# Altium footprint library Infineon Power MOSFET.PcbLib: 137 footprints (part 4 of 9)
Each footprint in its own frame and in the unit in brackets; x right, y up, seen from the top. Pads: shape width x height; smd on the part's side, far side on the other; paste and mask are expansions set on the pad; w line width, h text height; cw(c..) or ccw(c..) is an arc to the next point about the centre after c.
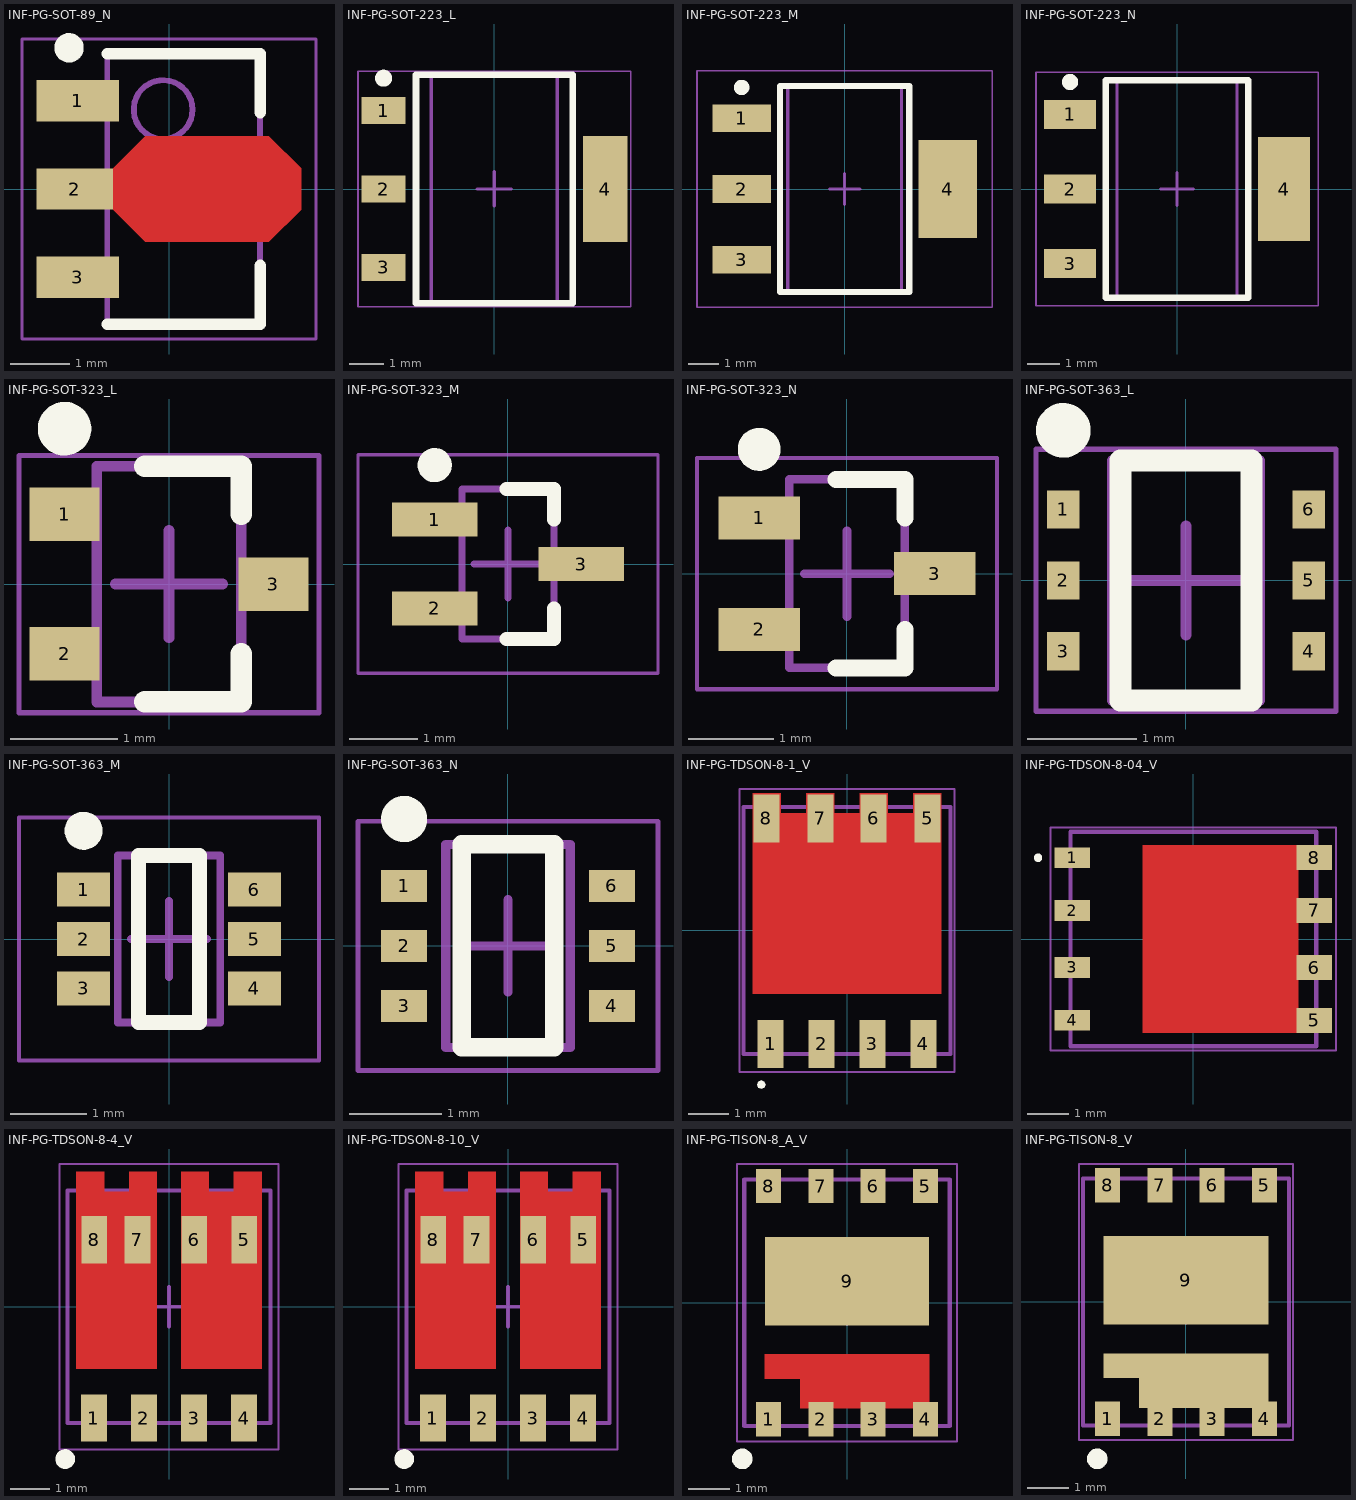
[diagram p3: the footprints below, top view; thin cyan lines are the x and y axes]

## INF-PG-SOT-89_N [mm] "SOT89, 3-Leads, Body 4.5x2.5mm, Pitch 1.5mm, IPC Medium Density"
height 1.6
pads (3):
  rect 1.4x0.7 smd: 1(-1.55,1.5) 3(-1.55,-1.5)
  rect 1.3x0.7 smd: 2(-1.6,0)
Top Layer:
  region: -0.95,0.35 -0.4,0.9 1.7,0.9 2.25,0.35 2.25,-0.35 1.7,-0.9 -0.4,-0.9 -0.95,-0.35
Top Overlay:
  circle w0.25: c-1.7,2.4 r0.125
  lines w0.2: -1.05,-2.3 1.55,-2.3 1.55,-1.3 ; -1.05,2.3 1.55,2.3 1.55,1.3
Mechanical 13:
  circle w0.1: c-0.1,1.35 r0.5
  lines w0.1: -1.05,-2.3 -1.05,2.3 1.55,2.3 1.55,-2.3 -1.05,-2.3
Mechanical 15:
  lines w0.05: -2.5,-2.55 -2.5,2.55 2.5,2.55 2.5,-2.55 -2.5,-2.55
  lines w0.1: -0.25,0 0.75,0 ; 0.25,-0.5 0.25,0.5
3D body: height 1.6, standoff 0, extent -1.05,-2.3 1.55,2.3

## INF-PG-SOT-223_L [mm] "SOT223, 4-Leads, Body 6.5x3.5mm, Pitch 2.3mm, IPC High Density"
height 1.8
pads (4):
  rect 1.3x0.8 smd: 1(-3.25,2.3) 2(-3.25,0) 3(-3.25,-2.3)
  rect 1.3x3.1 smd: 4(3.25,0)
Top Overlay:
  circle w0.25: c-3.25,3.25 r0.125
  lines w0.2: -2.3,-3.35 -2.3,3.35 2.3,3.35 2.3,-3.35 -2.3,-3.35
Mechanical 13:
  lines w0.1: -1.85,-3.35 -1.85,3.35 1.85,3.35 1.85,-3.35 -1.85,-3.35
Mechanical 15:
  lines w0.05: -4,-3.45 -4,3.45 4,3.45 4,-3.45 -4,-3.45
  lines w0.1: -0.5,0 0.5,0 ; 0,-0.5 0,0.5
3D body: height 1.8, standoff 0.1, extent -1.85,-3.35 1.85,3.35

## INF-PG-SOT-223_M [mm] "SOT223, 4-Leads, Body 6.5x3.5mm, Pitch 2.3mm, IPC Low Density"
height 1.8
pads (4):
  rect 1.9x0.9 smd: 1(-3.35,2.3) 2(-3.35,0) 3(-3.35,-2.3)
  rect 1.9x3.2 smd: 4(3.35,0)
Top Overlay:
  circle w0.25: c-3.35,3.3 r0.125
  lines w0.2: -2.1,-3.35 -2.1,3.35 2.1,3.35 2.1,-3.35 -2.1,-3.35
Mechanical 13:
  lines w0.1: -1.85,-3.35 -1.85,3.35 1.85,3.35 1.85,-3.35 -1.85,-3.35
Mechanical 15:
  lines w0.05: -4.8,-3.85 -4.8,3.85 4.8,3.85 4.8,-3.85 -4.8,-3.85
  lines w0.1: -0.5,0 0.5,0 ; 0,-0.5 0,0.5
3D body: height 1.8, standoff 0.1, extent -1.85,-3.35 1.85,3.35

## INF-PG-SOT-223_N [mm] "SOT223, 4-Leads, Body 6.5x3.5mm, Pitch 2.3mm, IPC Medium Density"
height 1.8
pads (4):
  rect 1.6x0.9 smd: 1(-3.3,2.3) 2(-3.3,0) 3(-3.3,-2.3)
  rect 1.6x3.2 smd: 4(3.3,0)
Top Overlay:
  circle w0.25: c-3.3,3.3 r0.125
  lines w0.2: -2.2,-3.35 -2.2,3.35 2.2,3.35 2.2,-3.35 -2.2,-3.35
Mechanical 13:
  lines w0.1: -1.85,-3.35 -1.85,3.35 1.85,3.35 1.85,-3.35 -1.85,-3.35
Mechanical 15:
  lines w0.05: -4.35,-3.6 -4.35,3.6 4.35,3.6 4.35,-3.6 -4.35,-3.6
  lines w0.1: -0.5,0 0.5,0 ; 0,-0.5 0,0.5
3D body: height 1.8, standoff 0.1, extent -1.85,-3.35 1.85,3.35

## INF-PG-SOT-323_L [mm] "SOT3, 3-Leads, Body 2x1.25mm, Pitch 0.65mm, IPC High Density"
height 1
pads (3):
  rect 0.65x0.5 smd: 1(-0.975,0.65) 2(-0.975,-0.65) 3(0.975,0)
Top Overlay:
  circle w0.25: c-0.975,1.45 r0.125
  lines w0.2: -0.225,-1.1 0.675,-1.1 0.675,-0.65 ; -0.225,1.1 0.675,1.1 0.675,0.65
Mechanical 13:
  lines w0.1: -0.675,-1.1 -0.675,1.1 0.675,1.1 0.675,-1.1 -0.675,-1.1
Mechanical 15:
  lines w0.05: -1.4,-1.2 -1.4,1.2 1.4,1.2 1.4,-1.2 -1.4,-1.2
  lines w0.1: -0.5,0 0.5,0 ; 0,-0.5 0,0.5
3D body: height 1, standoff 0.1, extent -0.675,-1.1 0.675,1.1

## INF-PG-SOT-323_M [mm] "SOT3, 3-Leads, Body 2x1.25mm, Pitch 0.65mm, IPC Low Density"
height 1
pads (3):
  rect 1.25x0.5 smd: 1(-1.075,0.65) 2(-1.075,-0.65) 3(1.075,0)
Top Overlay:
  circle w0.25: c-1.075,1.45 r0.125
  lines w0.2: -0.025,-1.1 0.675,-1.1 0.675,-0.65 ; -0.025,1.1 0.675,1.1 0.675,0.65
Mechanical 13:
  lines w0.1: -0.675,-1.1 -0.675,1.1 0.675,1.1 0.675,-1.1 -0.675,-1.1
Mechanical 15:
  lines w0.05: -2.2,-1.6 -2.2,1.6 2.2,1.6 2.2,-1.6 -2.2,-1.6
  lines w0.1: -0.5,0 0.5,0 ; 0,-0.5 0,0.5
3D body: height 1, standoff 0.1, extent -0.675,-1.1 0.675,1.1

## INF-PG-SOT-323_N [mm] "SOT3, 3-Leads, Body 2x1.25mm, Pitch 0.65mm, IPC Medium Density"
height 1
pads (3):
  rect 0.95x0.5 smd: 1(-1.025,0.65) 2(-1.025,-0.65) 3(1.025,0)
Top Overlay:
  circle w0.25: c-1.025,1.45 r0.125
  lines w0.2: -0.125,-1.1 0.675,-1.1 0.675,-0.65 ; -0.125,1.1 0.675,1.1 0.675,0.65
Mechanical 13:
  lines w0.1: -0.675,-1.1 -0.675,1.1 0.675,1.1 0.675,-1.1 -0.675,-1.1
Mechanical 15:
  lines w0.05: -1.75,-1.35 -1.75,1.35 1.75,1.35 1.75,-1.35 -1.75,-1.35
  lines w0.1: -0.5,0 0.5,0 ; 0,-0.5 0,0.5
3D body: height 1, standoff 0.1, extent -0.675,-1.1 0.675,1.1

## INF-PG-SOT-363_L [mm] "SOT23, 3-Leads, Body 2x1.25mm, Pitch 0.65mm, IPC High Density"
height 1
pads (6):
  rect 0.3x0.35 smd: 1(-1.125,0.65) 2(-1.125,0) 3(-1.125,-0.65) 4(1.125,-0.65) 5(1.125,0) 6(1.125,0.65)
Top Overlay:
  circle w0.25: c-1.125,1.375 r0.125
  lines w0.2: -0.6,-1.1 -0.6,1.1 0.6,1.1 0.6,-1.1 -0.6,-1.1
Mechanical 13:
  lines w0.1: -0.675,-1.1 0.675,-1.1 0.675,1.1 -0.675,1.1 -0.675,-1.1
Mechanical 15:
  lines w0.05: -1.375,-1.2 1.375,-1.2 1.375,1.2 -1.375,1.2 -1.375,-1.2
  lines w0.1: -0.5,0 0.5,0 ; 0,-0.5 0,0.5
3D body: height 1, standoff 0.1, extent -0.675,-1.1 0.675,1.1

## INF-PG-SOT-363_M [mm] "SOT23, 3-Leads, Body 2x1.25mm, Pitch 0.65mm, IPC Low Density"
height 1
pads (6):
  rect 0.7x0.45 smd: 1(-1.125,0.65) 2(-1.125,0) 3(-1.125,-0.65) 4(1.125,-0.65) 5(1.125,0) 6(1.125,0.65)
Top Overlay:
  circle w0.25: c-1.125,1.425 r0.125
  lines w0.2: -0.4,-1.1 -0.4,1.1 0.4,1.1 0.4,-1.1 -0.4,-1.1
Mechanical 13:
  lines w0.1: -0.675,-1.1 0.675,-1.1 0.675,1.1 -0.675,1.1 -0.675,-1.1
Mechanical 15:
  lines w0.05: -1.975,-1.6 1.975,-1.6 1.975,1.6 -1.975,1.6 -1.975,-1.6
  lines w0.1: -0.5,0 0.5,0 ; 0,-0.5 0,0.5
3D body: height 1, standoff 0.1, extent -0.675,-1.1 0.675,1.1

## INF-PG-SOT-363_N [mm] "SOT23, 3-Leads, Body 2x1.25mm, Pitch 0.65mm, IPC Medium Density"
height 1
pads (6):
  rect 0.5x0.35 smd: 1(-1.125,0.65) 2(-1.125,0) 3(-1.125,-0.65) 4(1.125,-0.65) 5(1.125,0) 6(1.125,0.65)
Top Overlay:
  circle w0.25: c-1.125,1.375 r0.125
  lines w0.2: -0.5,-1.1 -0.5,1.1 0.5,1.1 0.5,-1.1 -0.5,-1.1
Mechanical 13:
  lines w0.1: -0.675,-1.1 0.675,-1.1 0.675,1.1 -0.675,1.1 -0.675,-1.1
Mechanical 15:
  lines w0.05: -1.625,-1.35 1.625,-1.35 1.625,1.35 -1.625,1.35 -1.625,-1.35
  lines w0.1: -0.5,0 0.5,0 ; 0,-0.5 0,0.5
3D body: height 1, standoff 0.1, extent -0.675,-1.1 0.675,1.1

## INF-PG-TDSON-8-1_V [mm] "TDSON, 8-Leads, Body 6.15x5.15mm, Pitch 1.27mm"
height 1
pads (8):
  rect 0.65x1.2 smd: 1(-1.905,-2.825) 2(-0.635,-2.825) 3(0.635,-2.825) 4(1.905,-2.825) 5(2.007,2.794) 6(0.66,2.794) 7(-0.66,2.794) 8(-2.007,2.794)
Top Layer:
  region: -2.35,2.925 -2.35,-1.575 2.35,-1.575 2.35,2.925
  region: -2.35,2.925 -1.65,2.925 -1.65,3.425 -2.35,3.425
  region: 1.65,2.925 2.35,2.925 2.35,3.425 1.65,3.425
  region: -1.015,2.925 -0.315,2.925 -0.315,3.425 -1.015,3.425
  region: 0.315,2.925 1.015,2.925 1.015,3.425 0.315,3.425
Top Overlay:
  region: -2.242,-3.842 -2.21,-3.919 -2.134,-3.95 -2.057,-3.919 -2.025,-3.842 -2.057,-3.766 -2.134,-3.734 -2.21,-3.766
Mechanical 13:
  lines w0.1: -2.575,-3.075 -2.575,3.075 2.575,3.075 2.575,-3.075 -2.575,-3.075
Mechanical 15:
  lines w0.05: -2.675,-3.525 -2.675,3.525 2.675,3.525 2.675,-3.525 -2.675,-3.525
  lines w0.1: -0.5,0 0.5,0 ; 0,-0.5 0,0.5
3D body: height 1, standoff 0, extent -2.575,-3.075 2.575,3.075

## INF-PG-TDSON-8-04_V [mm] "SON, 8-Leads, Body 5.9x5.15mm, Pitch 1.27mm"
height 1.1
pads (8):
  rect 0.85x0.5 smd: 1(-2.9,1.95) 2(-2.9,0.68) 3(-2.9,-0.68) 4(-2.9,-1.95)
  rect 0.85x0.6 smd: 5(2.9,-1.955) 6(2.9,-0.685) 7(2.9,0.685) 8(2.9,1.955)
Top Layer:
  region: -1.225,2.255 -1.225,-2.255 2.525,-2.255 2.525,2.255
Top Overlay:
  circle w0.1: c-3.725,1.95 r0.05
Mechanical 13:
  lines w0.1: -2.95,-2.575 -2.95,2.575 2.95,2.575 2.95,-2.575 -2.95,-2.575
Mechanical 15:
  lines w0.05: -3.425,-2.675 -3.425,2.675 3.425,2.675 3.425,-2.675 -3.425,-2.675
  lines w0.1: -0.5,0 0.5,0 ; 0,-0.5 0,0.5
3D body: height 1.1, standoff 0, extent -2.95,-2.575 2.95,2.575

## INF-PG-TDSON-8-4_V [mm] "SON, 8-Leads, Body 5.9x5.15mm, Pitch 1.27mm"
height 1
pads (8):
  rect 0.65x1.2 smd: 1(-1.905,-2.825) 2(-0.635,-2.825) 3(0.635,-2.825) 4(1.905,-2.825) 5(1.91,1.7) 6(0.64,1.7) 7(-0.8,1.7) 8(-1.9,1.7)
Top Layer:
  region: 2.35,3.425 1.65,3.425 1.65,2.925 1.015,2.925 1.015,3.425 0.315,3.425 0.315,-1.575 2.35,-1.575
  region: -2.35,3.425 -1.65,3.425 -1.65,2.925 -1.015,2.925 -1.015,3.425 -0.315,3.425 -0.315,-1.575 -2.35,-1.575
Top Overlay:
  circle w0.25: c-2.635,-3.868 r0.125
Mechanical 13:
  lines w0.1: -2.575,-2.95 2.575,-2.95 2.575,2.95 -2.575,2.95 -2.575,-2.95
Mechanical 15:
  lines w0.05: -2.775,-3.625 2.775,-3.625 2.775,3.625 -2.775,3.625 -2.775,-3.625
  lines w0.1: -0.5,0 0.5,0 ; 0,-0.5 0,0.5
3D body: height 1, standoff 0.25, extent -2.575,-2.95 2.575,2.95

## INF-PG-TDSON-8-10_V [mm] "SON, 8-Leads, Body 5.9x5.15mm, Pitch 1.27mm"
height 1
pads (8):
  rect 0.65x1.2 smd: 1(-1.905,-2.825) 2(-0.635,-2.825) 3(0.635,-2.825) 4(1.905,-2.825) 5(1.91,1.7) 6(0.64,1.7) 7(-0.8,1.7) 8(-1.9,1.7)
Top Layer:
  region: 2.35,3.425 1.65,3.425 1.65,2.925 1.015,2.925 1.015,3.425 0.315,3.425 0.315,-1.575 2.35,-1.575
  region: -2.35,3.425 -1.65,3.425 -1.65,2.925 -1.015,2.925 -1.015,3.425 -0.315,3.425 -0.315,-1.575 -2.35,-1.575
Top Overlay:
  circle w0.25: c-2.635,-3.868 r0.125
Mechanical 13:
  lines w0.1: -2.575,-2.95 2.575,-2.95 2.575,2.95 -2.575,2.95 -2.575,-2.95
Mechanical 15:
  lines w0.05: -2.775,-3.625 2.775,-3.625 2.775,3.625 -2.775,3.625 -2.775,-3.625
  lines w0.1: -0.5,0 0.5,0 ; 0,-0.5 0,0.5
3D body: height 1, standoff 0.25, extent -2.575,-2.95 2.575,2.95

## INF-PG-TISON-8_A_V [mm] "TISON, 8-Leads, Body 6x5mm, Pitch 1.27mm"
height 1.15
pads (9):
  rect 0.61x0.83 smd: 1(-1.905,-2.835) 2(-0.635,-2.835) 3(0.635,-2.835) 4(1.905,-2.835) 5(1.905,2.835) 6(0.635,2.835) 7(-0.635,2.835) 8(-1.905,2.835)
  rect 4x2.15 smd: 9(0,0.525)
Top Layer:
  region: -2,-1.25 2,-1.25 2,-2.57 -1.14,-2.57 -1.14,-1.85 -2,-1.85
Top Overlay:
  circle w0.25: c-2.55,-3.8 r0.125
Mechanical 13:
  lines w0.1: -2.5,-3 -2.5,3 2.5,3 2.5,-3 -2.5,-3
Mechanical 15:
  lines w0.05: -2.675,-3.375 -2.675,3.375 2.675,3.375 2.675,-3.375 -2.675,-3.375
  lines w0.1: -0.5,0 0.5,0 ; 0,-0.5 0,0.5
3D body: height 1.15, standoff 0, extent -2.5,-3 2.5,3

## INF-PG-TISON-8_V [mm] "TISON, 8-Leads, Body 6x5mm, Pitch 1.27mm, Thermal Pad 4x2.15mm"
height 1.15
pads (11):
  rect 0.61x0.83 smd: 1(-1.905,-2.835) 2(-0.635,-2.835) 3(0.635,-2.835) 4(1.905,-2.835) 5(1.905,2.835) 6(0.635,2.835) 7(-0.635,2.835) 8(-1.905,2.835)
  rect 4x2.15 smd: 9(0,0.525)
  rect 4x0.6 smd: ""(0,-1.55)
  rect 3.14x0.72 smd: ""(0.43,-2.21)
Top Overlay:
  circle w0.25: c-2.157,-3.81 r0.125
Mechanical 13:
  lines w0.1: -2.5,-3 2.5,-3 2.5,3 -2.5,3 -2.5,-3
Mechanical 15:
  lines w0.05: -2.6,-3.35 -2.6,3.35 2.6,3.35 2.6,-3.35 -2.6,-3.35
  lines w0.1: -0.5,0 0.5,0 ; 0,-0.5 0,0.5
3D body: height 1.15, standoff 0, extent -2.5,-3 2.5,3